# EAGLE library part SAA7113H (library newchips)
9-bit video input processor
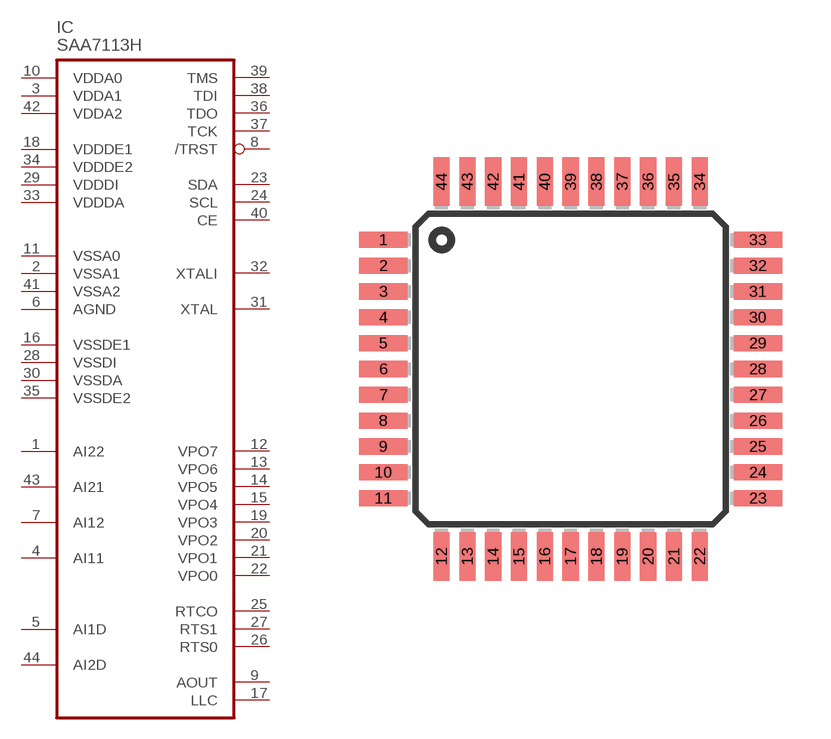
[diagram p31: symbol with the pads of TQFP44; footprint TQFP44]

Designator prefix IC

## SAA7113H  [TQFP44]
1  AI22  in
2  VSSA1  pwr
3  VDDA1  pwr
4  AI11  in
5  AI1D  pas
6  AGND  pwr
7  AI12  in
8  /TRST  in
9  AOUT  out
10  VDDA0  pwr
11  VSSA0  pwr
12  VPO7  out
13  VPO6  out
14  VPO5  out
15  VPO4  out
16  VSSDE1  pwr
17  LLC  out
18  VDDDE1  pwr
19  VPO3  out
20  VPO2  out
21  VPO1  out
22  VPO0  out
23  SDA
24  SCL  in
25  RTCO  out
26  RTS0  out
27  RTS1  out
28  VSSDI  pwr
29  VDDDI  pwr
30  VSSDA  pwr
31  XTAL  out
32  XTALI  in
33  VDDDA  pwr
34  VDDDE2  pwr
35  VSSDE2  pwr
36  TDO  out
37  TCK  in
38  TDI  in
39  TMS  in
40  CE  in
41  VSSA2  pwr
42  VDDA2  pwr
43  AI21  in
44  AI2D  pas

## Footprint TQFP44 (pad centres in mm)
Thin Quad Flat Package
smd 1.5 x 0.5: 1 -5.8,4; 2 -5.8,3.2; 3 -5.8,2.4; 4 -5.8,1.6; 5 -5.8,0.8; 6 -5.8,0; 7 -5.8,-0.8; 8 -5.8,-1.6; 9 -5.8,-2.4; 10 -5.8,-3.2; 11 -5.8,-4; 23 5.8,-4; 24 5.8,-3.2; 25 5.8,-2.4; 26 5.8,-1.6; 27 5.8,-0.8; 28 5.8,0; 29 5.8,0.8; 30 5.8,1.6; 31 5.8,2.4; 32 5.8,3.2; 33 5.8,4
smd 0.5 x 1.5: 12 -4,-5.8; 13 -3.2,-5.8; 14 -2.4,-5.8; 15 -1.6,-5.8; 16 -0.8,-5.8; 17 0,-5.8; 18 0.8,-5.8; 19 1.6,-5.8; 20 2.4,-5.8; 21 3.2,-5.8; 22 4,-5.8; 34 4,5.8; 35 3.2,5.8; 36 2.4,5.8; 37 1.6,5.8; 38 0.8,5.8; 39 0,5.8; 40 -0.8,5.8; 41 -1.6,5.8; 42 -2.4,5.8; 43 -3.2,5.8; 44 -4,5.8